# Altium footprint library SM_SOIC-8-PP.PcbLib: 1 footprints
Each footprint in its own frame and in the unit in brackets; x right, y up, seen from the top. Pads: shape width x height; smd on the part's side, far side on the other; paste and mask are expansions set on the pad; w line width, h text height; cw(c..) or ccw(c..) is an arc to the next point about the centre after c.
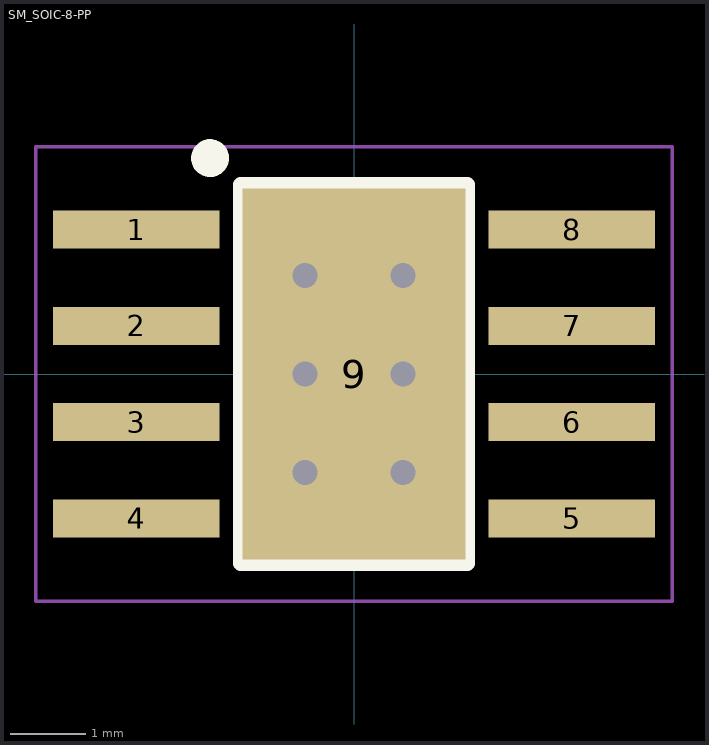
[diagram p0: the footprint, top view; thin cyan lines are the x and y axes]

## SM_SOIC-8-PP [mm] "IC REG BUCK ADJ 3.5A 8SOPWRPAD"
height 1.7
pads (9):
  rect 2.2x0.5 smd mask+0.07: 1(-2.875,1.905) 2(-2.875,0.635) 3(-2.875,-0.635) 4(-2.875,-1.905) 5(2.875,-1.905) 6(2.875,-0.635) 7(2.875,0.635) 8(2.875,1.905)
  rect 2.95x4.9 smd paste-999 mask-999: 9(0,0)
via -0.65,-1.3 diameter 0.45 hole 0.33
via 0.65,-1.3 diameter 0.45 hole 0.33
via 0.65,0 diameter 0.45 hole 0.33
via -0.65,0 diameter 0.45 hole 0.33
via -0.65,1.3 diameter 0.45 hole 0.33
via 0.65,1.3 diameter 0.45 hole 0.33
Top Overlay:
  circle w0.25: c-1.9,2.85 r0.125
  lines w0.2: -1.5,2.1 1.5,2.1 ; -1.5,-2.5 -1.5,2.5 1.5,2.5 1.5,-2.5 -1.5,-2.5
Top Paste:
  rectangle: -1.15,-1.5 1.15,1.5
Top Solder:
  rectangle: -1.2,-1.55 1.2,1.55
Mechanical 13:
  circle w0.1: c-1.1,2.1 r0.25
  lines w0.1: -1.5,-2.5 -1.5,2.5 1.5,2.5 1.5,-2.5 -1.5,-2.5
Mechanical 15:
  lines w0.05: -4.2,-3 -4.2,3 4.2,3 4.2,-3 -4.2,-3
  lines w0.1: -0.5,0 0.5,0 ; 0,-0.5 0,0.5
3D body: height 1.7, standoff 0.15, extent -1.5,-2.5 1.5,2.5